# EAGLE library part PIC18F8* (library EW_IC_Processors)
PIC18F87J10 FAMILY 64/80-Pin, High-Performance, 1-Mbit Flash Microcontrollers with nanoWatt Technology Source: http://www.microchip.com/ .. 39663c.pdf
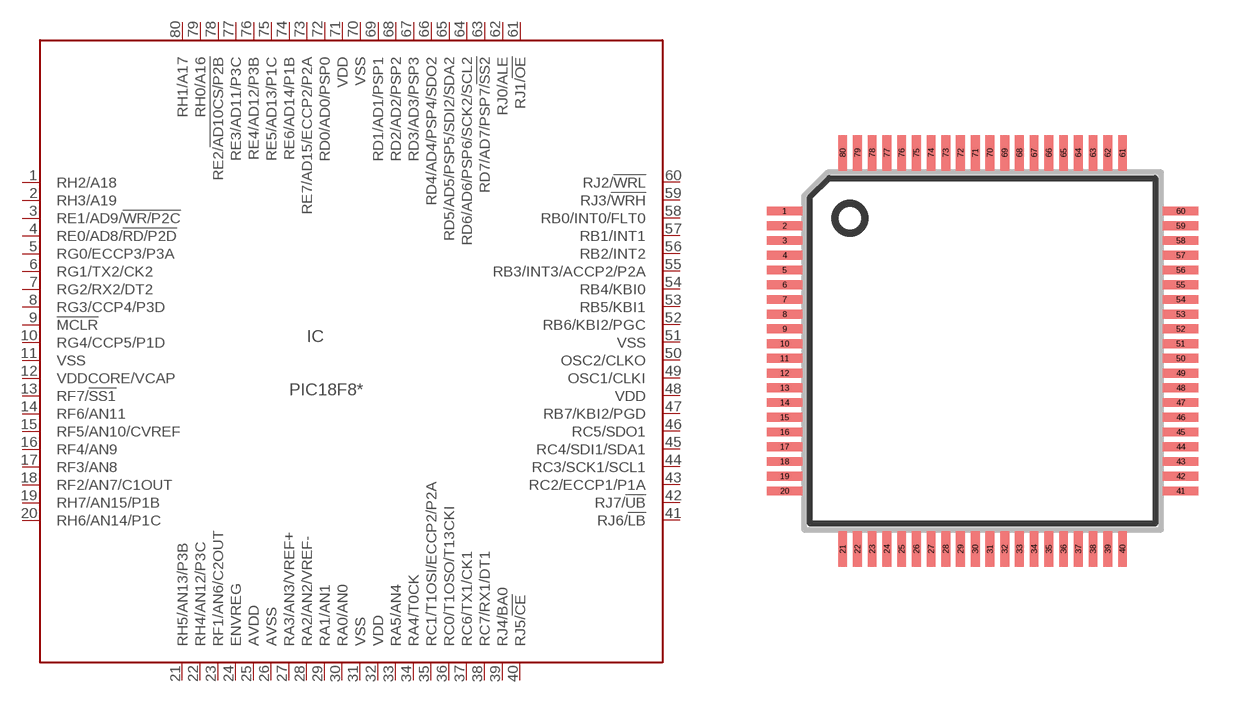
[diagram p90: symbol with the pads of TQFP80-12X12; footprint TQFP80-12X12]

Designator prefix IC

## PIC18F85J10 (MF: MICROCHIP; MPN: PIC18F85J10-I/PT; OC_FARNELL: 1847396; OC_NEWARK: 71J7277), PIC18F85J15 (MF: MICROCHIP; MPN: PIC18F85J15-I/PT; OC_FARNELL: unknown; OC_NEWARK: 71J7279), PIC18F86J10 (MPN: PIC18F86J10-I/PT; OC_FARNELL: 1332288; OC_NEWARK: 34M8058), PIC18F86J15 (MF: MICROCHIP; MPN: PIC18F86J15-I/PT; OC_FARNELL: unknown; OC_NEWARK: 71J7284), PIC18F87J10 (MF: MICROCHIP; MPN: PIC18F87J10-I/PT; OC_FARNELL: 1332290; OC_NEWARK: 71J7289)  [TQFP80-12X12]
1  RH2/A18
2  RH3/A19
3  RE1/AD9/!WR/P2C
4  RE0/AD8/!RD/P2D
5  RG0/ECCP3/P3A
6  RG1/TX2/CK2
7  RG2/RX2/DT2
8  RG3/CCP4/P3D
9  !MCLR  in
10  RG4/CCP5/P1D
11  VSS  pwr
12  VDDCORE/VCAP  pwr
13  RF7/!SS1
14  RF6/AN11
15  RF5/AN10/CVREF
16  RF4/AN9
17  RF3/AN8
18  RF2/AN7/C1OUT
19  RH7/AN15/P1B
20  RH6/AN14/P1C
21  RH5/AN13/P3B
22  RH4/AN12/P3C
23  RF1/AN6/C2OUT
24  ENVREG  in
25  AVDD  pwr
26  AVSS  pwr
27  RA3/AN3/VREF+
28  RA2/AN2/VREF-
29  RA1/AN1
30  RA0/AN0
31  VSS  pwr
32  VDD  pwr
33  RA5/AN4
34  RA4/T0CK
35  RC1/T1OSI/ECCP2/P2A
36  RC0/T1OSO/T13CKI
37  RC6/TX1/CK1
38  RC7/RX1/DT1
39  RJ4/BA0
40  RJ5/!CE
41  RJ6/!LB
42  RJ7/!UB
43  RC2/ECCP1/P1A
44  RC3/SCK1/SCL1
45  RC4/SDI1/SDA1
46  RC5/SDO1
47  RB7/KBI2/PGD
48  VDD  pwr
49  OSC1/CLKI  in
50  OSC2/CLKO  out
51  VSS  pwr
52  RB6/KBI2/PGC
53  RB5/KBI1
54  RB4/KBI0
55  RB3/INT3/ACCP2/P2A
56  RB2/INT2
57  RB1/INT1
58  RB0/INT0/FLT0
59  RJ3/!WRH
60  RJ2/!WRL
61  RJ1/!OE
62  RJ0/ALE
63  RD7/AD7/PSP7/!SS2
64  RD6/AD6/PSP6/SCK2/SCL2
65  RD5/AD5/PSP5/SDI2/SDA2
66  RD4/AD4/PSP4/SDO2
67  RD3/AD3/PSP3
68  RD2/AD2/PSP2
69  RD1/AD1/PSP1
70  VSS  pwr
71  VDD  pwr
72  RD0/AD0/PSP0
73  RE7/AD15/ECCP2/P2A
74  RE6/AD14/P1B
75  RE5/AD13/P1C
76  RE4/AD12/P3B
77  RE3/AD11/P3C
78  RE2/!AD10CS/P2B
79  RH0/A16
80  RH1/A17

## Footprint TQFP80-12X12 (pad centres in mm)
TQFP80 12x12x1 mm Body Source: http://www.microchip.com/ .. 39663c.pdf
smd 1.2 x 0.3: 1 -6.725,4.75; 2 -6.725,4.25; 3 -6.725,3.75; 4 -6.725,3.25; 5 -6.725,2.75; 6 -6.725,2.25; 7 -6.725,1.75; 8 -6.725,1.25; 9 -6.725,0.75; 10 -6.725,0.25; 11 -6.725,-0.25; 12 -6.725,-0.75; 13 -6.725,-1.25; 14 -6.725,-1.75; 15 -6.725,-2.25; 16 -6.725,-2.75; 17 -6.725,-3.25; 18 -6.725,-3.75; 19 -6.725,-4.25; 20 -6.725,-4.75; 41 6.725,-4.75; 42 6.725,-4.25; 43 6.725,-3.75; 44 6.725,-3.25; 45 6.725,-2.75; 46 6.725,-2.25; 47 6.725,-1.75; 48 6.725,-1.25; 49 6.725,-0.75; 50 6.725,-0.25; 51 6.725,0.25; 52 6.725,0.75; 53 6.725,1.25; 54 6.725,1.75; 55 6.725,2.25; 56 6.725,2.75; 57 6.725,3.25; 58 6.725,3.75; 59 6.725,4.25; 60 6.725,4.75
smd 0.3 x 1.2: 21 -4.75,-6.725; 22 -4.25,-6.725; 23 -3.75,-6.725; 24 -3.25,-6.725; 25 -2.75,-6.725; 26 -2.25,-6.725; 27 -1.75,-6.725; 28 -1.25,-6.725; 29 -0.75,-6.725; 30 -0.25,-6.725; 31 0.25,-6.725; 32 0.75,-6.725; 33 1.25,-6.725; 34 1.75,-6.725; 35 2.25,-6.725; 36 2.75,-6.725; 37 3.25,-6.725; 38 3.75,-6.725; 39 4.25,-6.725; 40 4.75,-6.725; 61 4.75,6.725; 62 4.25,6.725; 63 3.75,6.725; 64 3.25,6.725; 65 2.75,6.725; 66 2.25,6.725; 67 1.75,6.725; 68 1.25,6.725; 69 0.75,6.725; 70 0.25,6.725; 71 -0.25,6.725; 72 -0.75,6.725; 73 -1.25,6.725; 74 -1.75,6.725; 75 -2.25,6.725; 76 -2.75,6.725; 77 -3.25,6.725; 78 -3.75,6.725; 79 -4.25,6.725; 80 -4.75,6.725